# EAGLE library part STM32F469VET (library Rebel)
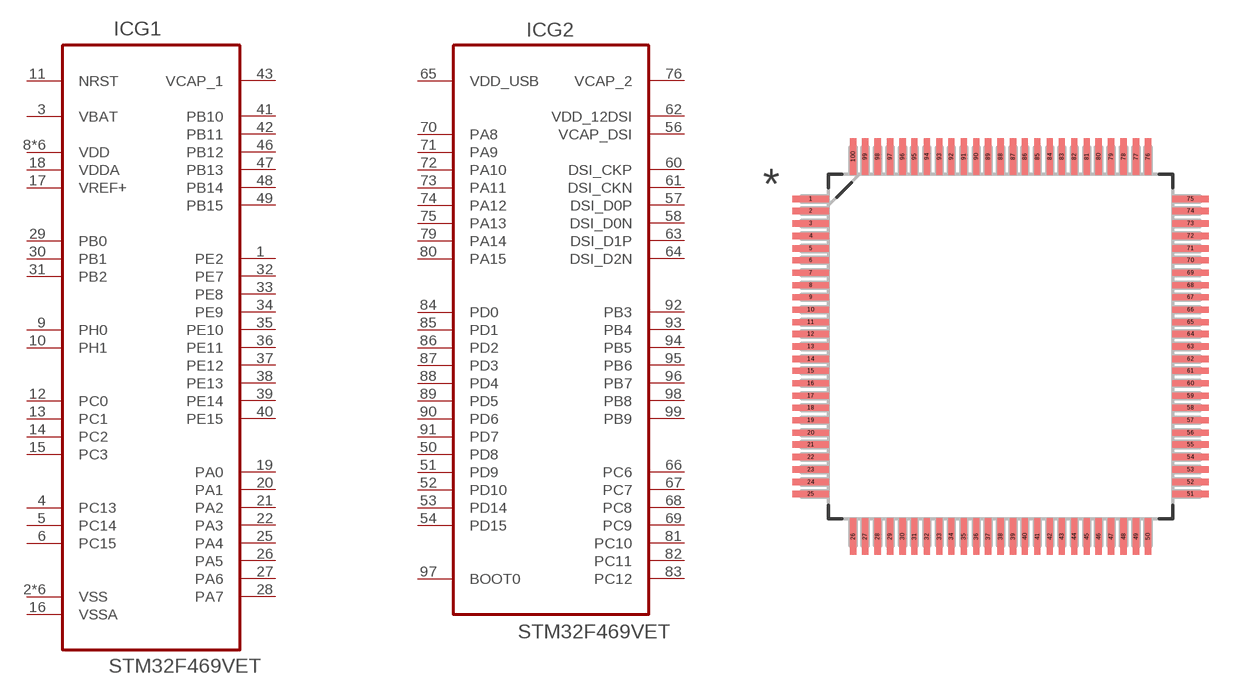
[diagram p42: symbol with the pads of QFP50P1600X1600X160-100N; footprint QFP50P1600X1600X160-100N]

Designator prefix IC; gates G1=STM32F469VET_A G2=STM32F469VET_B

## STM32F469VET  [QFP50P1600X1600X160-100N]
1  G1:PE2
2  G1:VSS  pas
3  G1:VBAT  pwr
4  G1:PC13
5  G1:PC14
6  G1:PC15
7  G1:VSS  pas
8  G1:VDD  pwr
9  G1:PH0
10  G1:PH1
11  G1:NRST
12  G1:PC0
13  G1:PC1
14  G1:PC2
15  G1:PC3
16  G1:VSSA  pas
17  G1:VREF+  pwr
18  G1:VDDA  pwr
19  G1:PA0
20  G1:PA1
21  G1:PA2
22  G1:PA3
23  G1:VSS  pas
24  G1:VDD  pwr
25  G1:PA4
26  G1:PA5
27  G1:PA6
28  G1:PA7
29  G1:PB0
30  G1:PB1
31  G1:PB2
32  G1:PE7
33  G1:PE8
34  G1:PE9
35  G1:PE10
36  G1:PE11
37  G1:PE12
38  G1:PE13
39  G1:PE14
40  G1:PE15
41  G1:PB10
42  G1:PB11
43  G1:VCAP_1  pwr
44  G1:VSS  pas
45  G1:VDD  pwr
46  G1:PB12
47  G1:PB13
48  G1:PB14
49  G1:PB15
50  G2:PD8
51  G2:PD9
52  G2:PD10
53  G2:PD14
54  G2:PD15
55  G1:VDD  pwr
56  G2:VCAP_DSI  pwr
57  G2:DSI_D0P
58  G2:DSI_D0N
59  G1:VSS  pas
60  G2:DSI_CKP
61  G2:DSI_CKN
62  G2:VDD_12DSI  pwr
63  G2:DSI_D1P
64  G2:DSI_D2N
65  G2:VDD_USB  pwr
66  G2:PC6
67  G2:PC7
68  G2:PC8
69  G2:PC9
70  G2:PA8
71  G2:PA9
72  G2:PA10
73  G2:PA11
74  G2:PA12
75  G2:PA13
76  G2:VCAP_2  pwr
77  G1:VDD  pwr
78  G1:VSS  pas
79  G2:PA14
80  G2:PA15
81  G2:PC10
82  G2:PC11
83  G2:PC12
84  G2:PD0
85  G2:PD1
86  G2:PD2
87  G2:PD3
88  G2:PD4
89  G2:PD5
90  G2:PD6
91  G2:PD7
92  G2:PB3
93  G2:PB4
94  G2:PB5
95  G2:PB6
96  G2:PB7
97  G2:BOOT0  in
98  G2:PB8
99  G2:PB9
100  G1:VDD  pwr

## Footprint QFP50P1600X1600X160-100N (pad centres in mm)
smd 1.473 x 0.254: 1 -7.722,5.994; 2 -7.722,5.512; 3 -7.722,5.004; 4 -7.722,4.496; 5 -7.722,3.988; 6 -7.722,3.505; 7 -7.722,2.997; 8 -7.722,2.489; 9 -7.722,2.007; 10 -7.722,1.499; 11 -7.722,0.991; 12 -7.722,0.508; 13 -7.722,0; 14 -7.722,-0.508; 15 -7.722,-0.991; 16 -7.722,-1.499; 17 -7.722,-2.007; 18 -7.722,-2.489; 19 -7.722,-2.997; 20 -7.722,-3.505; 21 -7.722,-3.988; 22 -7.722,-4.496; 23 -7.722,-5.004; 24 -7.722,-5.512; 25 -7.722,-5.994; 51 7.722,-5.994; 52 7.722,-5.512; 53 7.722,-5.004; 54 7.722,-4.496; 55 7.722,-3.988; 56 7.722,-3.505; 57 7.722,-2.997; 58 7.722,-2.489; 59 7.722,-2.007; 60 7.722,-1.499; 61 7.722,-0.991; 62 7.722,-0.508; 63 7.722,0; 64 7.722,0.508; 65 7.722,0.991; 66 7.722,1.499; 67 7.722,2.007; 68 7.722,2.489; 69 7.722,2.997; 70 7.722,3.505; 71 7.722,3.988; 72 7.722,4.496; 73 7.722,5.004; 74 7.722,5.512; 75 7.722,5.994
smd 0.254 x 1.473: 26 -5.994,-7.722; 27 -5.512,-7.722; 28 -5.004,-7.722; 29 -4.496,-7.722; 30 -3.988,-7.722; 31 -3.505,-7.722; 32 -2.997,-7.722; 33 -2.489,-7.722; 34 -2.007,-7.722; 35 -1.499,-7.722; 36 -0.991,-7.722; 37 -0.508,-7.722; 38 0,-7.722; 39 0.508,-7.722; 40 0.991,-7.722; 41 1.499,-7.722; 42 2.007,-7.722; 43 2.489,-7.722; 44 2.997,-7.722; 45 3.505,-7.722; 46 3.988,-7.722; 47 4.496,-7.722; 48 5.004,-7.722; 49 5.512,-7.722; 50 5.994,-7.722; 76 5.994,7.722; 77 5.512,7.722; 78 5.004,7.722; 79 4.496,7.722; 80 3.988,7.722; 81 3.505,7.722; 82 2.997,7.722; 83 2.489,7.722; 84 2.007,7.722; 85 1.499,7.722; 86 0.991,7.722; 87 0.508,7.722; 88 0,7.722; 89 -0.508,7.722; 90 -0.991,7.722; 91 -1.499,7.722; 92 -2.007,7.722; 93 -2.489,7.722; 94 -2.997,7.722; 95 -3.505,7.722; 96 -3.988,7.722; 97 -4.496,7.722; 98 -5.004,7.722; 99 -5.512,7.722; 100 -5.994,7.722